# Altium footprint library SOD.PcbLib: 1 footprints
Each footprint in its own frame and in the unit in brackets; x right, y up, seen from the top. Pads: shape width x height; smd on the part's side, far side on the other; paste and mask are expansions set on the pad; w line width, h text height; cw(c..) or ccw(c..) is an arc to the next point about the centre after c.
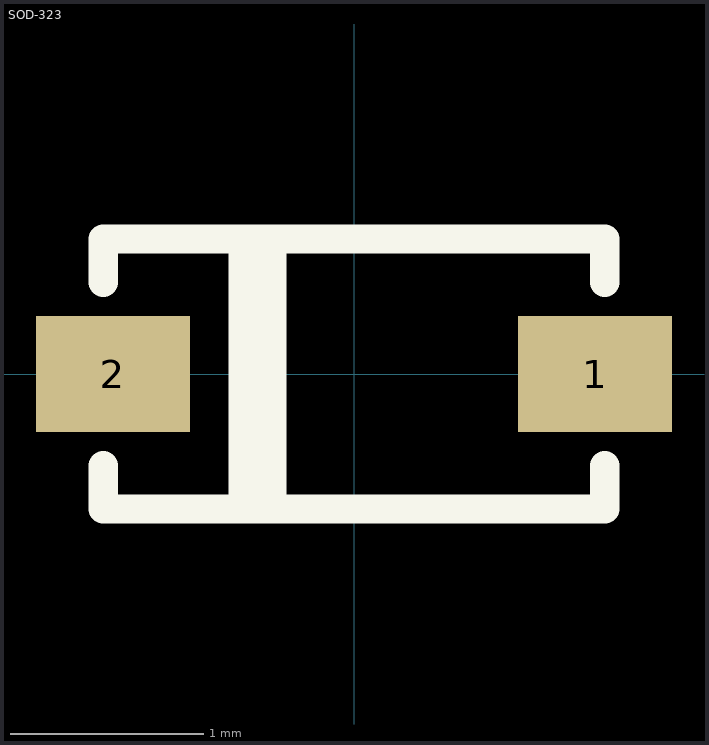
[diagram p0: the footprint, top view; thin cyan lines are the x and y axes]

## SOD-323 [mm] "SOD323 Diode"
height 1.1
pads (2):
  rect 0.8x0.6 smd: 1(1.25,0) 2(-1.25,0)
Top Overlay:
  lines w0.152: -1.3,-0.475 -1.3,-0.7 1.3,-0.7 1.3,-0.475 ; -1.3,0.475 -1.3,0.7 1.3,0.7 1.3,0.475 ; -0.575,-0.7 -0.575,0.7 ; -0.425,-0.7 -0.425,0.7
3D body: height 1.1, standoff 0, extent -1.3,-0.675 1.3,0.675